# EAGLE library part BACKPLANE->DATACONV (library CONN, DataConversion-Backplane Connector- SAMTEC CLT-107-01-F-D)
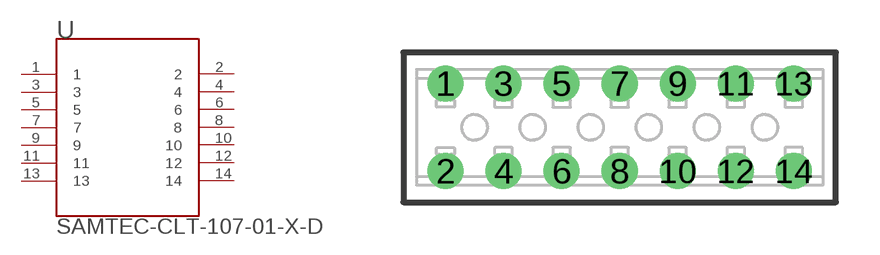
[diagram p0: symbol with the pads of SAMTEC-CLT-107-01-X-D-BACKPLANE; footprint SAMTEC-CLT-107-01-X-D-BACKPLANE]

Designator prefix -

## BACKPLANE->DATACONV  [SAMTEC-CLT-107-01-X-D-BACKPLANE]
1  1  pas
2  2  pas
3  3  pas
4  4  pas
5  5  pas
6  6  pas
7  7  pas
8  8  pas
9  9  pas
10  10  pas
11  11  pas
12  12  pas
13  13  pas
14  14  pas

## Footprint SAMTEC-CLT-107-01-X-D-BACKPLANE (pad centres in mm)
translated Allegro footprint
drill 0.64 pad 1.24: 1 -6,1.511; 2 -6,-1.511; 3 -4,1.511; 4 -4,-1.511; 5 -2,1.511; 6 -2,-1.511; 7 0,1.511; 8 0,-1.511; 9 2,1.511; 10 2,-1.511; 11 4,1.511; 12 4,-1.511; 13 6,1.511; 14 6,-1.511